# Altium schematic symbol library USB-A-S-RA-SMT.SchLib: 1 symbol
Pins are listed as number, name and electrical type; pins without a type are passive.

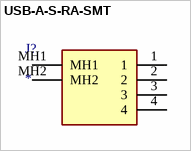
[diagram p0: symbol USB-A-S-RA-SMT]

## USB-A-S-RA-SMT
designator J?
Connector; Manufacturer_Name: Adam Tech; Manufacturer_Part_Number: USB-A-S-RA-SMT; Description: USB TYPE A SINGLE R/A SMT; Datasheet Link: https://app.adam-tech.com/products/download/data_sheet/195864/usb-a-s-ra-smt-data-sheet.pdf; Height: 7.493mm; Arrow Part Number: USB-A-S-RA-SMT; Arrow Price/Stock: https://www.arrow.com/en/products/usb-a-s-ra-smt/adam-tech?region=nac
footprint USBASRASMT
pins: 1, 2, 3, 4, MH1, MH2